# Altium schematic symbol library Schlib1.SchLib: 3 symbols
Pins are listed as number, name and electrical type; pins without a type are passive.

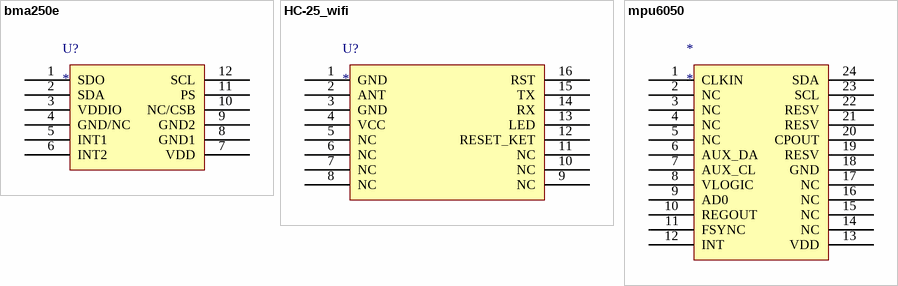
[diagram p0: symbols bma250e to mpu6050]

## bma250e
designator U?
footprint bma250e (Footprint not found)
pins: 1 SDO, 2 SDA, 3 VDDIO, 4 GND/NC, 5 INT1, 6 INT2, 7 VDD, 8 GND1, 9 GND2, 10 NC/CSB, 11 PS, 12 SCL

## HC-25_wifi
designator U?
pins: 1 GND, 2 ANT, 3 GND, 4 VCC, 5 NC, 6 NC, 7 NC, 8 NC, 9 NC, 10 NC, 11 NC, 12 RESET_KET, 13 LED, 14 RX, 15 TX, 16 RST

## mpu6050
designator *
pins: 1 CLKIN, 2 NC, 3 NC, 4 NC, 5 NC, 6 AUX_DA, 7 AUX_CL, 8 VLOGIC, 9 AD0, 10 REGOUT, 11 FSYNC, 12 INT, 13 VDD, 14 NC, 15 NC, 16 NC, 17 NC, 18 GND, 19 RESV, 20 CPOUT, 21 RESV, 22 RESV, 23 SCL, 24 SDA